# Altium footprint library jointbar.PCBLIB: 47 footprints (part 2 of 3)
Each footprint in its own frame and in the unit in brackets; x right, y up, seen from the top. Pads: shape width x height; smd on the part's side, far side on the other; paste and mask are expansions set on the pad; w line width, h text height; cw(c..) or ccw(c..) is an arc to the next point about the centre after c.
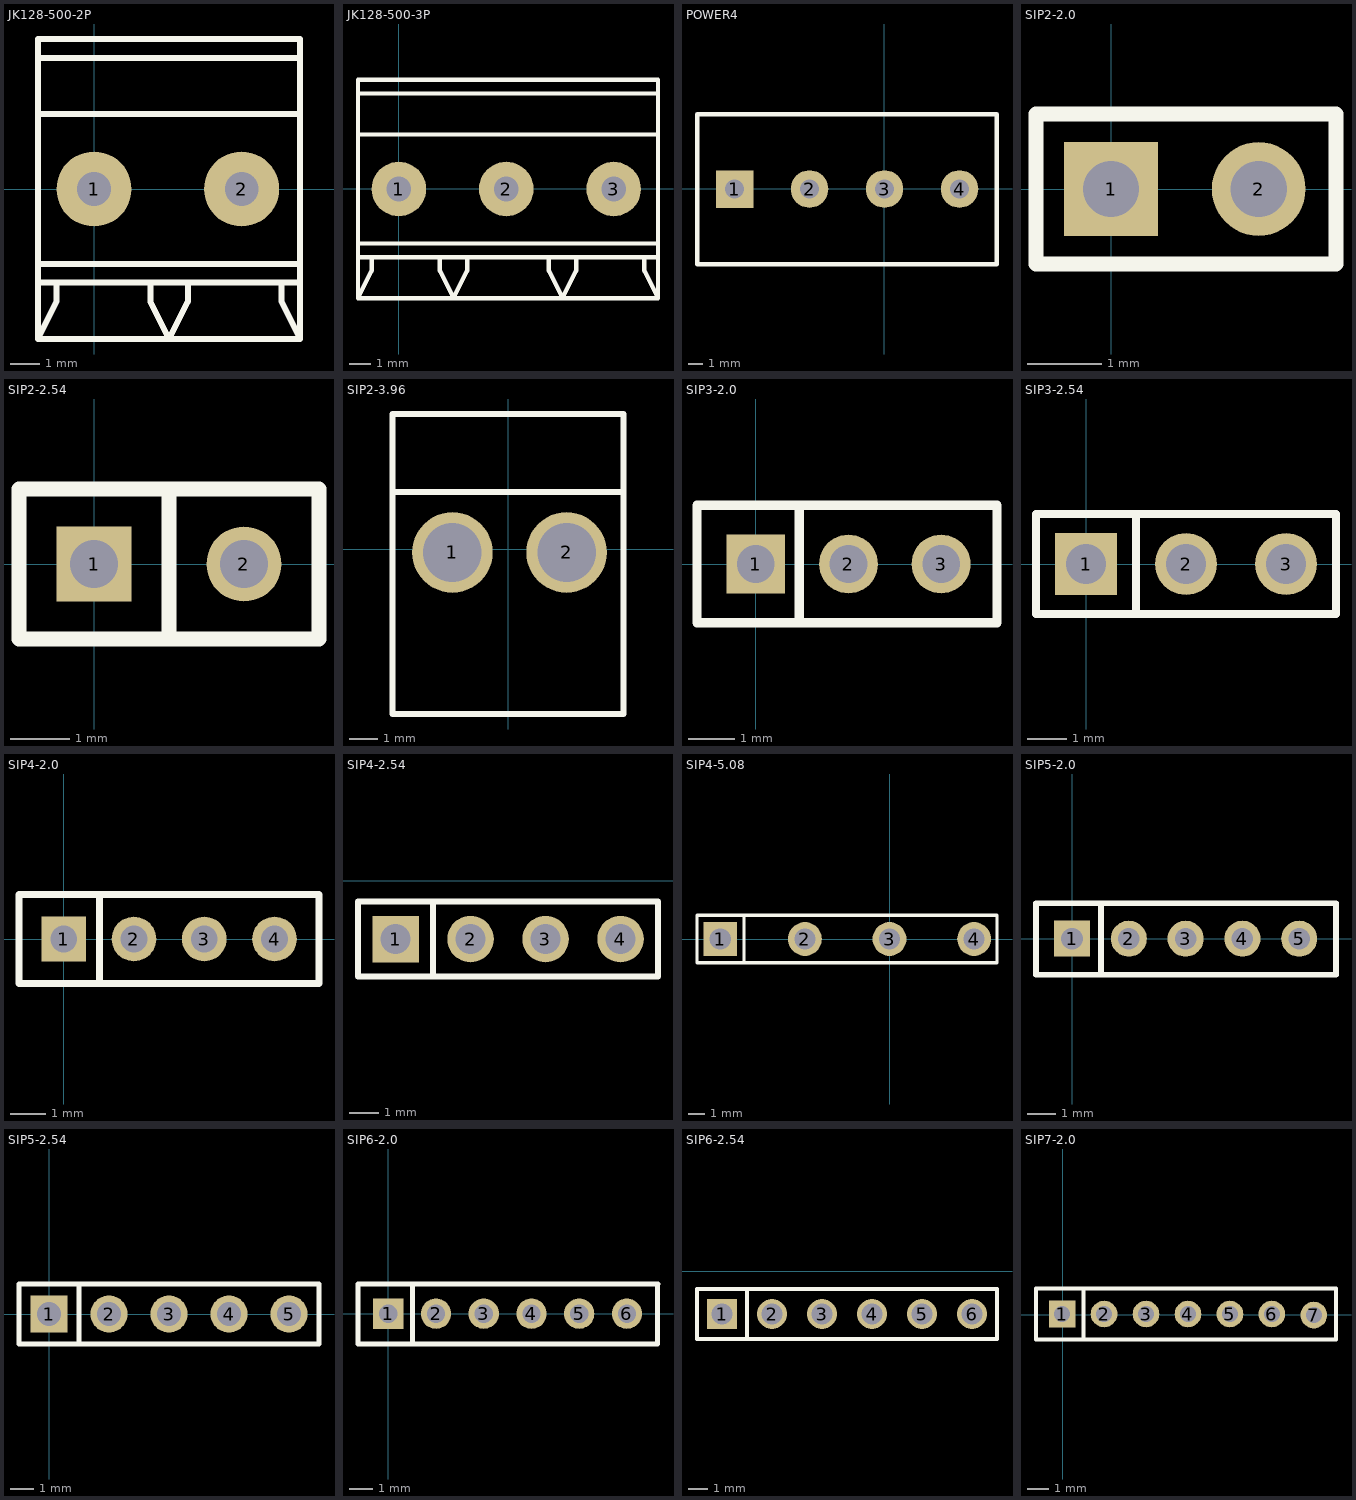
[diagram p1: the footprints below, top view; thin cyan lines are the x and y axes]

## JK128-500-2P [mil]
pads (2):
  round 100 hole 45: 1(0,0) 2(196.85,0)
TopOverlay:
  lines w8: -75,-125 275,-125 ; -75,-100 275,-100 ; -75,100 275,100 ; -75,175 275,175 ; -50,-125 -50,-150 -75,-200 ; 75,-125 75,-150 100,-200 125,-150 125,-125 ; 250,-125 250,-150 275,-200 ; -75,-200 275,-200 ; -75,-200 -75,200 275,200 275,-200

## JK128-500-3P [mil]
pads (3):
  round 100 hole 45: 1(0,-0.02) 2(196.85,-0.02) 3(393.7,-0.02)
TopOverlay:
  lines w8: -75,-125.02 225,-125.02 275,-125.02 275,-150.02 300,-200.02 325,-150.02 325,-125.02 ; -75,99.98 225,99.98 275,99.98 ; -75,174.98 225,174.98 275,174.98 ; -50,-125.02 -50,-150.02 -75,-200.02 ; 75,-125.02 75,-150.02 100,-200.02 125,-150.02 125,-125.02 425,-125.02 475,-125.02 ; 125,-200.02 425,-200.02 475,-200.02 ; 125,-100.02 425,-100.02 475,-100.02 ; 125,99.98 425,99.98 475,99.98 ; 125,174.98 425,174.98 475,174.98 ; 125,199.98 425,199.98 475,199.98 475,149.98 475,-150.02 475,-200.02 ; 275,-200.02 225,-200.02 -75,-200.02 ; 275,-100.02 225,-100.02 -75,-100.02 ; 275,199.98 225,199.98 -75,199.98 -75,-100.02 ; 450,-125.02 450,-150.02 475,-200.02 ; -75,-200.02 -75,-100.02

## POWER4 [mil]
pads (4):
  rect 100x100 hole 50: 1(-399.54,-0.22)
  round 100 hole 50: 2(-199.53,-0.22) 3(0.47,-0.22) 4(200.47,-0.22)
TopOverlay:
  lines w12: -499.54,-200.22 -499.54,199.78 300.46,199.78 300.46,-200.22 -499.54,-200.22

## SIP2-2.0 [mil]
pads (2):
  rect 50x50 hole 30: 1(0,0)
  round 50 hole 30: 2(78.74,0)
TopOverlay:
  lines w8: -40,-40 120,-40 120,40 -40,40 -40,-40

## SIP2-2.54 [mil]
pads (2):
  rect 50x50 hole 32: 1(0,0)
  round 50 hole 32: 2(100,0)
TopOverlay:
  lines w10: 50,-50 50,50 ; -50,-50 150,-50 150,50 -50,50 -50,-50

## SIP2-3.96 [mil]
pads (2):
  round 110 hole 80: 1(-75.91,-4.25) 2(80,-4.25)
TopOverlay:
  lines w8: -157.48,78.42 157.48,78.42 ; -157.48,-224.72 157.48,-224.72 157.48,184.72 -157.48,184.72 -157.48,-224.72

## SIP3-2.0 [mil]
pads (3):
  rect 50x50 hole 32: 1(0,0)
  round 50 hole 32: 2(78.74,0) 3(157.48,0)
TopOverlay:
  lines w8: 37,50 37,-49 38,-50 ; -50,-50 -50,50 205,50 205,-50 -50,-50

## SIP3-2.54 [mil]
pads (3):
  rect 62x62 hole 40: 1(0,0)
  round 62 hole 40: 2(100,0) 3(200,0)
TopOverlay:
  lines w8: 50,-50 50,50 ; -50,-50 -50,50 250,50 250,-50 -50,-50

## SIP4-2.0 [mil]
pads (4):
  rect 50x50 hole 30: 1(0,0)
  round 50 hole 30: 2(78.74,0) 3(157.48,0) 4(236.22,0)
TopOverlay:
  lines w8: 40,-50 40,50 ; -50,-50 286,-50 286,50 -50,50 -50,-50

## SIP4-2.54 [mil]
pads (4):
  rect 62x62 hole 40: 1(79,-78)
  round 62 hole 40: 2(179,-78) 3(279,-78) 4(379,-78)
TopOverlay:
  lines w8: 129,-128 129,-28 ; 29,-128 29,-28 429,-28 429,-128 29,-128

## SIP4-5.08 [mil]
pads (4):
  rect 80x80 hole 50: 1(-400,0)
  round 80 hole 50: 2(-200,0) 3(0,0) 4(200,0)
TopOverlay:
  lines w8: -455,-56 254,-56 254,56 -455,56 ; -455,-55 -455,55 ; -344,-56 -344,56

## SIP5-2.0 [mil]
pads (5):
  rect 50x50 hole 30: 1(0,0)
  round 50 hole 30: 2(78.74,0) 3(157.48,0) 4(236.22,0) 5(314.96,0)
TopOverlay:
  lines w8: 40,-50 40,47 ; -50,-50 366,-50 366,49 -50,49 -50,-50

## SIP5-2.54 [mil]
pads (5):
  rect 62x62 hole 40: 1(0,0)
  round 62 hole 40: 2(100,0) 3(200,0) 4(300,0) 5(400,0)
TopOverlay:
  lines w8: 50,-50 50,50 ; -50,-50 -50,50 450,50 450,-50 -50,-50

## SIP6-2.0 [mil]
pads (6):
  rect 50x50 hole 30: 1(0,0)
  round 50 hole 30: 2(78.74,0) 3(157.48,0) 4(236.22,0) 5(314.96,0) 6(393.7,0)
TopOverlay:
  lines w8: 40,-49 40,49 ; -50,-50 -50,49 445,49 444,48 444,-50 -50,-50

## SIP6-2.54 [mil]
pads (6):
  rect 60x60 hole 42: 1(89.75,-85.93)
  round 60 hole 42: 2(189.75,-85.93) 3(289.75,-85.93) 4(389.75,-85.93) 5(489.75,-85.93) 6(589.75,-85.93)
TopOverlay:
  lines w8: 139.75,-135.93 139.75,-35.93 ; 39.74,-135.93 39.74,-35.93 639.75,-35.93 639.75,-135.93 39.74,-135.93

## SIP7-2.0 [mil]
pads (7):
  rect 50x50 hole 30: 1(-1,1)
  round 50 hole 30: 2(77.74,1) 3(156.48,1) 4(235.22,1) 5(313.96,1) 6(392.7,1) 7(471.44,-1)
TopOverlay:
  lines w8: 39,-47 39,49 ; 513,48 513,-47 -50,-47 -50,49 513,49